# Altium schematic symbol library Switch^Relay.SchLib: 10 symbols
Pins are listed as number, name and electrical type; pins without a type are passive.

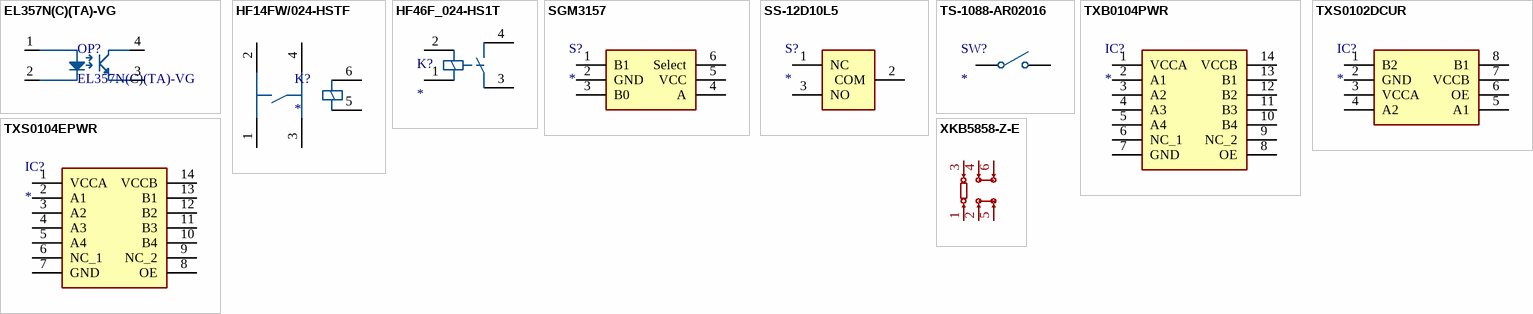
[diagram p0: symbols EL357N(C)(TA)-VG to XKB5858-Z-E]

## EL357N(C)(TA)-VG
designator OP?
No Description Available; Mfr_Name: Everlight; RefDes: RefDes; Type: Type
footprint SOP-4-2.54mm
pins: 1 6, 2 7, 3 8, 4 9

## HF14FW/024-HSTF
designator K?
Relay or Contactor; Manufacturer_Name: Hongfa; Manufacturer_Part_Number: HF14FW/024-HSTF; Datasheet Link: https://docs.rs-online.com/d608/0900766b81663c99.pdf; Height: 26.5mm
footprint HF14FW005HPTF
pins: 1 NO_1, 2 NO_2, 3 COM_1, 4 COM_2, 5 COIL_1, 6 COIL_2

## HF46F_024-HS1T
designator K?
Relay or Contactor; Manufacturer_Name: Hongfa; Manufacturer_Part_Number: HF46F/024-HS1T; Datasheet Link: https://www.tme.com/Document/c87786c546bba5bb9984c9460ff2ec46/HF46F_en.pdf; Height: 15.6mm
footprint HF46F024HS1T
pins: 1 COIL_1, 2 COIL_2, 3 NO, 4 COM

## SGM3157
designator S?
Switch; Manufacturer_Name: SGMICRO; Manufacturer_Part_Number: SGM3157YC6/TR; Datasheet Link: https://pdf1.alldatasheet.com/datasheet-pdf/view/224033/SGMICRO/SGM3157YC6/TR.html; Height: 1.1mm
footprint SOT65P230X110-6N (Footprint not found)
pins: 1 B1, 2 GND, 3 B0, 4 A, 5 VCC, 6 Select

## SS-12D10L5
designator S?
Switch; Manufacturer_Name: XKB Connectivity; Manufacturer_Part_Number: SS-12D10L5; Datasheet Link: http://www.helloxkb.com/public/images/pdf/SS-12D10XXX.pdf; Height: 11.6mm
footprint SS12D10L5
pins: 1 NC, 2 COM, 3 NO

## TS-1088-AR02016
designator SW?
Switch; Manufacturer_Name: XUNPU; Manufacturer_Part_Number: TS-1088-AR02016; Datasheet Link: https://www.xunpudianzi.com/uploads/pdf/TS-1088-ARXXX.pdf; Height: 2mm
footprint TS1088AR02016
pins: 1 COMMON, 2 NO

## TXB0104PWR
designator IC?
Integrated Circuit; Manufacturer_Name: Texas Instruments; Manufacturer_Part_Number: TXB0104PWR; Datasheet Link: http://www.ti.com/lit/ds/symlink/txb0104.pdf; Height: 1.2mm; Mouser Part Number: 595-TXB0104PWR; Mouser Price/Stock: https://www.mouser.co.uk/ProductDetail/Texas-Instruments/TXB0104PWR?qs=oFXvjAmG9EjSF69GpMWq5w%3D%3D; Arrow Part Number: TXB0104PWR; Arrow Price/Stock: https://www.arrow.com/en/products/txb0104pwr/texas-instruments?region=nac
footprint SOP65P640X120-14N
pins: 1 VCCA, 2 A1, 3 A2, 4 A3, 5 A4, 6 NC_1, 7 GND, 8 OE, 9 NC_2, 10 B4, 11 B3, 12 B2, 13 B1, 14 VCCB

## TXS0102DCUR
designator IC?
Integrated Circuit; Manufacturer_Name: Texas Instruments; Manufacturer_Part_Number: TXS0102DCUR; Datasheet Link: https://datasheet.datasheetarchive.com/originals/distributors/SFDatasheet-7/sf-000145437.pdf; Height: 0.9mm; Mouser Part Number: 595-TXS0102DCUR; Mouser Price/Stock: https://www.mouser.co.uk/ProductDetail/Texas-Instruments/TXS0102DCUR?qs=dB0LedT%252BmmBcQ3I%2Fs9XEDA%3D%3D; Arrow Part Number: TXS0102DCUR; Arrow Price/Stock: https://www.arrow.com/en/products/txs0102dcur/texas-instruments?utm_currency=USD&region=nac
footprint SOP50P310X90-8N (Footprint not found)
pins: 1 B2, 2 GND, 3 VCCA, 4 A2, 5 A1, 6 OE, 7 VCCB, 8 B1

## TXS0104EPWR
designator IC?
Integrated Circuit; Manufacturer_Name: Texas Instruments; Manufacturer_Part_Number: TXS0104EPWR; Datasheet Link: http://www.ti.com/lit/ds/symlink/txs0104e.pdf; Height: 1.2mm; Mouser Part Number: 595-TXS0104EPWR; Mouser Price/Stock: https://www.mouser.co.uk/ProductDetail/Texas-Instruments/TXS0104EPWR?qs=7kv20MEVUlglsv2MH6ZndA%3D%3D; Arrow Part Number: TXS0104EPWR; Arrow Price/Stock: https://www.arrow.com/en/products/txs0104epwr/texas-instruments?utm_currency=USD&region=nac
footprint SOP65P640X120-14N
pins: 1 VCCA, 2 A1, 3 A2, 4 A3, 5 A4, 6 NC_1, 7 GND, 8 OE, 9 NC_2, 10 B4, 11 B3, 12 B2, 13 B1, 14 VCCB

## XKB5858-Z-E
designator SW??  (value not drawn)
Manufacturer: XKB Connection(中国星坤); Add into BOM: yes; Self Lock / No Lock: 自锁; Actuator Style: 方形按钮; Contact Current: 100mA; Voltage Rating (AC): 250V; Voltage Rating (DC): 30V; Insulation Resistance: 100MΩ; Actuator/Cap Color: 白色; With Lamp: 不带; Pin Style: PC引脚; Operating Force: 2.5N; Mechanical Life: 10万次; Symbol: XKB5858-Z-E; Device: XKB5858-Z-E; LCSC Part Name: XKB5858-Z-E; Supplier Part: C780038; Manufacturer Part: XKB5858-Z-E; Supplier Footprint: 插件; JLCPCB Part Class: Extended Part; Datasheet: https://atta.szlcsc.com/upload/public/pdf/source/20211011/56D3FA9FC185EAC41365C3B37B684CC1.pdf; Supplier: LCSC; Convert to PCB: yes; Mounting Style: 卧插; Operating Temperature: -15℃~+55℃
footprint SW-TH_XKB5858-Z-E
3D model SW-TH_XKB5858-Z-E
pins: 1, 2, 3, 4, 5, 6